# Altium footprint library IMU3000.PcbLib: 2 footprints
Each footprint in its own frame and in the unit in brackets; x right, y up, seen from the top. Pads: shape width x height; smd on the part's side, far side on the other; paste and mask are expansions set on the pad; w line width, h text height; cw(c..) or ccw(c..) is an arc to the next point about the centre after c.
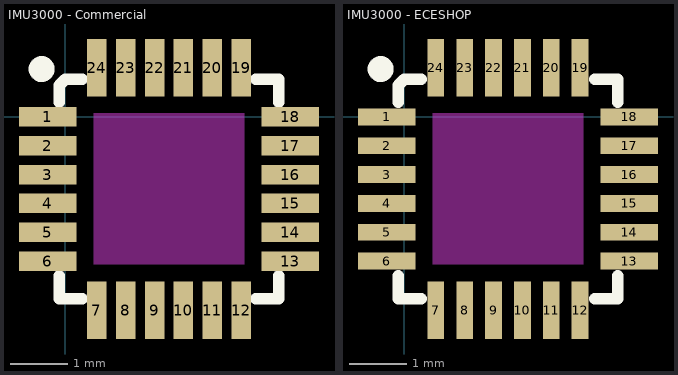
[diagram p0: the footprints below, top view; thin cyan lines are the x and y axes]

## IMU3000 - Commercial [mm]
pads (24):
  rect 1x0.34 smd: 1(-0.3,0) 2(-0.3,-0.5) 3(-0.3,-1) 4(-0.3,-1.5) 5(-0.3,-2) 6(-0.3,-2.5) 13(3.9,-2.5) 14(3.9,-2) 15(3.9,-1.5) 16(3.9,-1) 17(3.9,-0.5) 18(3.9,0)
  rect 0.34x1 smd: 7(0.55,-3.35) 8(1.05,-3.35) 9(1.55,-3.35) 10(2.05,-3.35) 11(2.55,-3.35) 12(3.05,-3.35) 19(3.05,0.85) 20(2.55,0.85) 21(2.05,0.85) 22(1.55,0.85) 23(1.05,0.85) 24(0.55,0.85)
Top Overlay:
  circle w0.3: c-0.408,0.829 r0.075
  lines w0.2: -0.1,-2.75 -0.1,-3.15 0.3,-3.15 ; -0.1,0.25 -0.1,0.55 0,0.65 0.3,0.65 ; 3.3,-3.15 3.7,-3.15 3.7,-2.75 ; 3.3,0.65 3.7,0.65 3.7,0.25
Keep-Out Layer:
  rectangle: 0.488,-2.562 3.109,0.066

## IMU3000 - ECESHOP [mm]
pads (24):
  rect 1x0.29 smd: 1(-0.3,0) 2(-0.3,-0.5) 3(-0.3,-1) 4(-0.3,-1.5) 5(-0.3,-2) 6(-0.3,-2.5) 13(3.9,-2.5) 14(3.9,-2) 15(3.9,-1.5) 16(3.9,-1) 17(3.9,-0.5) 18(3.9,0)
  rect 0.29x1 smd: 7(0.55,-3.35) 8(1.05,-3.35) 9(1.55,-3.35) 10(2.05,-3.35) 11(2.55,-3.35) 12(3.05,-3.35) 19(3.05,0.85) 20(2.55,0.85) 21(2.05,0.85) 22(1.55,0.85) 23(1.05,0.85) 24(0.55,0.85)
Top Overlay:
  circle w0.3: c-0.408,0.829 r0.075
  lines w0.2: -0.1,-2.75 -0.1,-3.15 0.3,-3.15 ; -0.1,0.25 -0.1,0.55 0,0.65 0.3,0.65 ; 3.3,-3.15 3.7,-3.15 3.7,-2.75 ; 3.3,0.65 3.7,0.65 3.7,0.25
Keep-Out Layer:
  rectangle: 0.488,-2.562 3.109,0.066